# Altium schematic symbol library AltuimSTM32_ExamplePCB_2.SCHLIB: 23 symbols
Pins are listed as number, name and electrical type; pins without a type are passive.

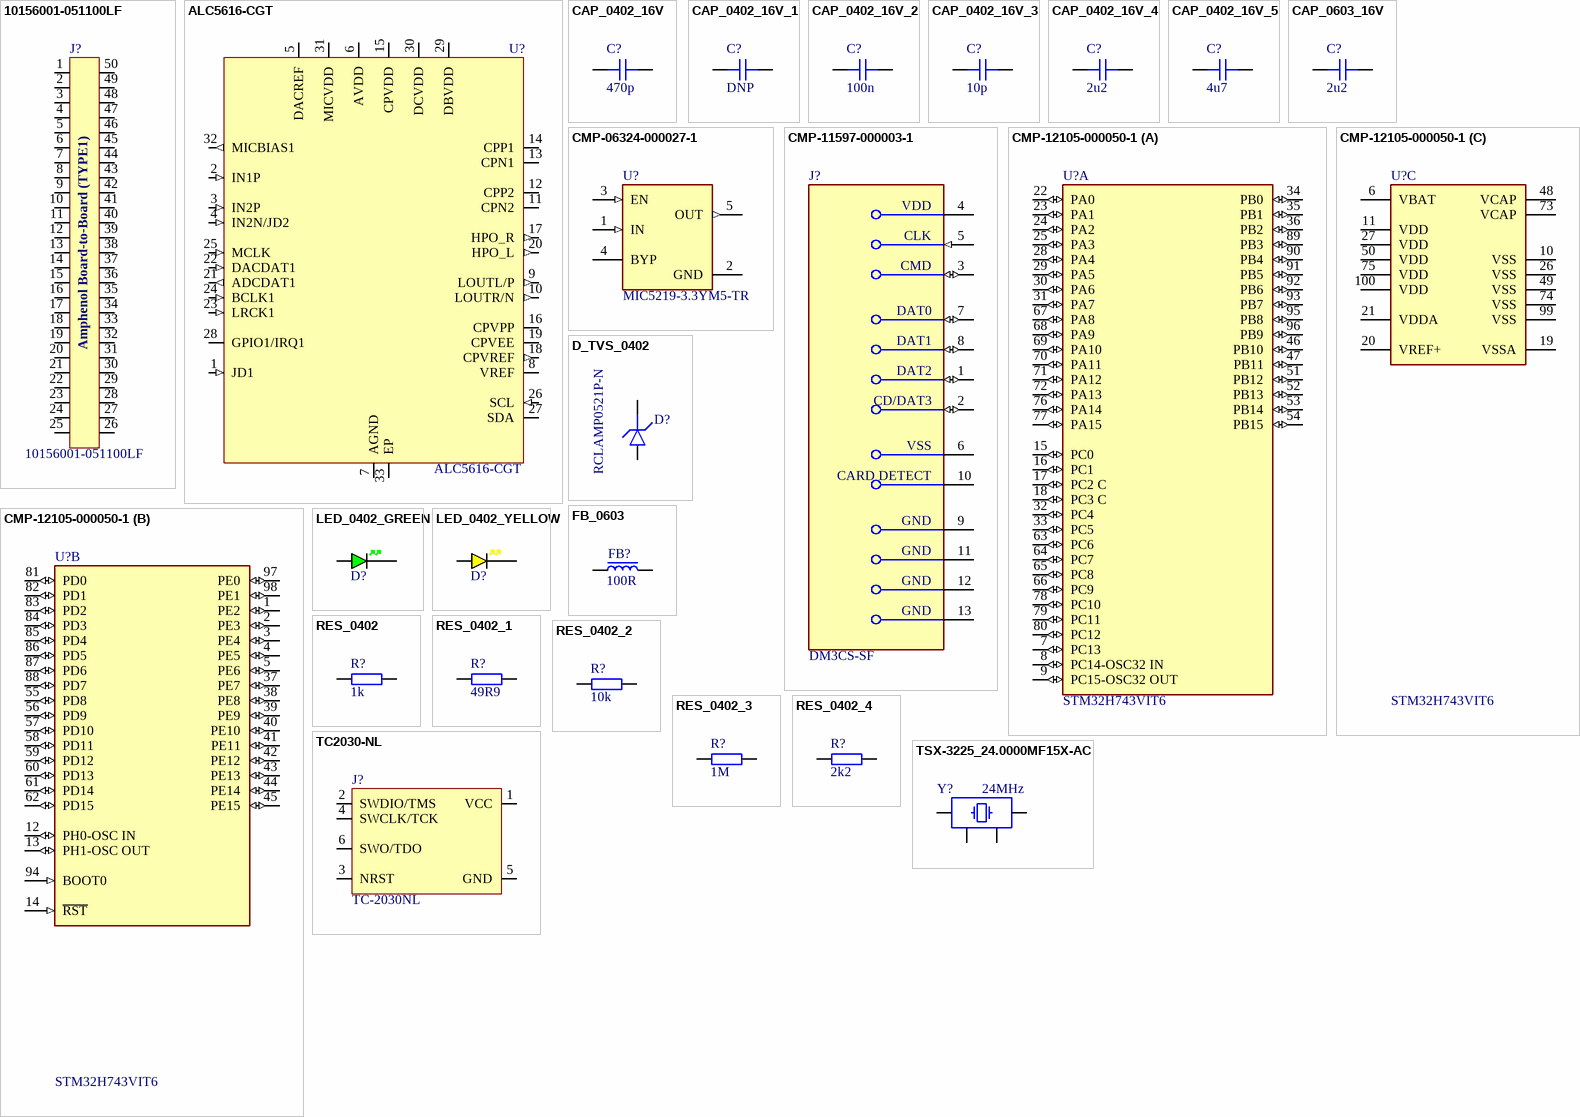
[diagram p0: symbols 10156001-051100LF to TSX-3225_24.0000MF15X-AC]

## 10156001-051100LF
designator J?
Board-to-Board Connector 0.5mm Pitch 50 Position 2 Row; Manufacturer: Amphenol FCI; Manufacturer Part Number: 10156001-051100LF
footprint 10156001-051100LF
pins: 1, 2, 3, 4, 5, 6, 7, 8, 9, 10, 11, 12, 13, 14, 15, 16, 17, 18, 19, 20, 21, 22, 23, 24, 25, 26, 27, 28, 29, 30, 31, 32, 33, 34, 35, 36, 37, 38, 39, 40, 41, 42, 43, 44, 45, 46, 47, 48, 49, 50
text: Amphenol Board-to-Board (TYPE1)

## ALC5616-CGT
designator U?
Ultra-Low Power Audio CODEC; Manufacturer: Realtek; Manufacturer Part Number: ALC5616-CGT
footprint QFN-32-4x4 (QFN, 32-Leads, Body 4.00x4.00mm, Pitch 0.40mm, Thermal Pad 2.70x2.70mm, IPC Medium Density)
pins: 1 JD1 (in), 2 IN1P (in), 3 IN2P (in), 4 IN2N/JD2 (in), 5 DACREF (power), 6 AVDD (power), 7 AGND (power), 8 VREF (power), 9 LOUTL/P (out), 10 LOUTR/N (out), 11 CPN2 (power), 12 CPP2 (power), 13 CPN1 (power), 14 CPP1 (power), 15 CPVDD (power), 16 CPVPP, 17 HPO_R (out), 18 CPVREF (out), 19 CPVEE, 20 HPO_L (out), 21 ADCDAT1 (out), 22 DACDAT1 (in), 23 LRCK1 (in), 24 BCLK1 (in), 25 MCLK (in), 26 SCL (in), 27 SDA (io), 28 GPIO1/IRQ1 (io), 29 DBVDD (power), 30 DCVDD (power), 31 MICVDD (power), 32 MICBIAS1 (out), 33 EP (power)

## CAP_0402_16V
designator C?, comment 470p
Capacitor SMD 0402 16V
footprint CAP_0402
pins: 1, 2

## CAP_0402_16V_1
designator C?, comment DNP
Capacitor SMD 0402 16V
footprint CAP_0402
pins: 1, 2

## CAP_0402_16V_2
designator C?, comment 100n
Capacitor SMD 0402 16V
footprint CAP_0402
pins: 1, 2

## CAP_0402_16V_3
designator C?, comment 10p
Capacitor SMD 0402 16V
footprint CAP_0402
pins: 1, 2

## CAP_0402_16V_4
designator C?, comment 2u2
Capacitor SMD 0402 16V
footprint CAP_0402
pins: 1, 2

## CAP_0402_16V_5
designator C?, comment 4u7
Capacitor SMD 0402 16V
footprint CAP_0402
pins: 1, 2

## CAP_0603_16V
designator C?, comment 2u2
Capacitor SMD 0603 16V
footprint CAP_0603
pins: 1, 2

## CMP-06324-000027-1
designator U?, comment MIC5219-3.3YM5-TR
IC REG LINEAR 3.3V 500MA SOT23-5; Dropout Voltage: 350mV; Output Type: Fixed; Number of Regulators: 1; Max Input Voltage: 12V; Min Input Voltage: 2.5V; Min Operating Temperature: -40°C; Nominal Output Voltage: 3.3V; Output Voltage: 3.3V; Packaging: Cut Tape; Mount: Surface Mount; Number of Pins: 5; Case/Package: SOT-23-5; Lead Free: Lead Free; Max Operating Temperature: 125°C; REACH SVHC: No SVHC; Output Current: 500mA
footprint FP-SOT23-5LD-PL-1-IPC_C
footprint FP-SOT23-5LD-PL-1-IPC_B
footprint FP-SOT23-5LD-PL-1-IPC_A
footprint FP-SOT23-5LD-PL-1-MFG
pins: 1 IN (in), 2 GND (power), 3 EN (in), 4 BYP, 5 OUT (out)

## CMP-11597-000003-1
designator J?, comment DM3CS-SF
CONN MICRO SD CARD HINGED TYPE; Pitch: 1.1mm; Connector Type: Connector; Current Rating: 500mA; Voltage Rating (AC): 125V; Gender: Female; Insulation Resistance: 1GR; Number of Positions: 8; Contact Resistance: 100mR; Packaging: Tape and Reel; Flammability Rating: UL94 V-0; Lead Free: Lead Free; Min Operating Temperature: -25°C; Orientation: Right Angle; Width: 13.8mm; Number of Rows: 1; Housing Material: Polymer; Package Quantity: 1; Mount: Surface Mount; Max Current Rating: 500mA; Radiation Hardening: No; Max Operating Temperature: 85°C; Contact Plating: Gold; Depth: 1.83mm; Contact Material: Gold; Length: 14.1mm; Number of Contacts: 8; Termination: Solder
footprint FP-DM3CS-SF-MFG
pins: 1 DAT2 (io), 2 CD/DAT3 (io), 3 CMD (io), 4 VDD (power), 5 CLK (in), 6 VSS (power), 7 DAT0 (io), 8 DAT1 (io), 9 GND (power), 10 CARD DETECT, 11 GND (power), 12 GND (power), 13 GND (power)

## CMP-12105-000050-1
designator U?, comment STM32H743VIT6
IC MCU 32BIT 2MB FLASH 100LQFP; Manufacturer: STMicroelectronics; Number Of Ethernet Channels: 1; Number Of Usb Channels: 2; Number Of A/D Converters: 3; Min Supply Voltage: 1.71V; Ram Size: 1060KBytes; Number Of I2C Channels: 4; Frequency: 480MHz; Number Of Adc Channels: 36; Number Of I/Os: 82; Max Supply Voltage: 3.6V; Number Of Spi Channels: 6; Memory Size: 2MBytes; Max Junction Temp: +125°C; Core Architecture: Arm Cortex-M7; Interface: I2C,SPI,UART,USART,USB,LIN,IrDA,Ethernet,I2S,Other; Number Of Timers/Counters: 20; Data Bus Width: 32bits; Number Of Pwm Channels: 42; Number Of Uart Channels: 9; Standoff Height: 0.05mm; Device Class L1: Integrated Circuits (ICs); ComponentLink2URL: https://www.st.com/resource/en/datasheet/stm32h743vi.pdf; Automotive: No; Memory Type: FLASH; Number Of Cores: 1; Temperature Range Low: -40°C; RoHS: TRUE; Ambient Temperature Range Low: -40°C; ComponentLink2Description: Datasheet; Device Class L2: Embedded Processors and Controllers; Device Class L3: Microcontrollers; Digikey Description: IC MCU 32BIT 2MB FLASH 100LQFP; Temperature Range High: +125°C; Ambient Temperature Range High: +85°C; Package: LQFP100-1L; Temperature: -40°C to +125°C; Category: IC; Ipc Land Pattern Name: QFP50P1600X1600X160-100; Height: 1.6mm; Manufacturer Part Number: STM32H743VIT6; Octopart: https://octopart.com/stm32h743vit6-stmicroelectronics-76372527; Lead Free: Yes
footprint FP-LQFP100-1L-MFG
footprint FP-LQFP100-1L-IPC_C
footprint FP-LQFP100-1L-IPC_B
footprint FP-LQFP100-1L-IPC_A
part A pins: 7 PC13 (io), 8 PC14-OSC32 IN (io), 9 PC15-OSC32 OUT (io), 15 PC0 (io), 16 PC1 (io), 17 PC2 C (io), 18 PC3 C (io), 22 PA0 (io), 23 PA1 (io), 24 PA2 (io), 25 PA3 (io), 28 PA4 (io), 29 PA5 (io), 30 PA6 (io), 31 PA7 (io), 32 PC4 (io), 33 PC5 (io), 34 PB0 (io), 35 PB1 (io), 36 PB2 (io), 46 PB10 (io), 47 PB11 (io), 51 PB12 (io), 52 PB13 (io), 53 PB14 (io), 54 PB15 (io), 63 PC6 (io), 64 PC7 (io), 65 PC8 (io), 66 PC9 (io), 67 PA8 (io), 68 PA9 (io), 69 PA10 (io), 70 PA11 (io), 71 PA12 (io), 72 PA13 (io), 76 PA14 (io), 77 PA15 (io), 78 PC10 (io), 79 PC11 (io), 80 PC12 (io), 89 PB3 (io), 90 PB4 (io), 91 PB5 (io), 92 PB6 (io), 93 PB7 (io), 95 PB8 (io), 96 PB9 (io)
part B pins: 1 PE2 (io), 2 PE3 (io), 3 PE4 (io), 4 PE5 (io), 5 PE6 (io), 12 PH0-OSC IN (io), 13 PH1-OSC OUT (io), 14 ~{RST} (in), 37 PE7 (io), 38 PE8 (io), 39 PE9 (io), 40 PE10 (io), 41 PE11 (io), 42 PE12 (io), 43 PE13 (io), 44 PE14 (io), 45 PE15 (io), 55 PD8 (io), 56 PD9 (io), 57 PD10 (io), 58 PD11 (io), 59 PD12 (io), 60 PD13 (io), 61 PD14 (io), 62 PD15 (io), 81 PD0 (io), 82 PD1 (io), 83 PD2 (io), 84 PD3 (io), 85 PD4 (io), 86 PD5 (io), 87 PD6 (io), 88 PD7 (io), 94 BOOT0 (in), 97 PE0 (io), 98 PE1 (io)
part C pins: 6 VBAT (power), 10 VSS (power), 11 VDD (power), 19 VSSA (power), 20 VREF+ (power), 21 VDDA (power), 26 VSS (power), 27 VDD (power), 48 VCAP, 49 VSS (power), 50 VDD (power), 73 VCAP, 74 VSS (power), 75 VDD (power), 99 VSS (power), 100 VDD (power)

## D_TVS_0402
designator D?, comment RCLAMP0521P-N
Diode TVS / ESD 0402
footprint D_0402
pins: A, K

## FB_0603
designator FB?, comment 100R
Ferrite Bead SMD 0603
footprint FB_0603 (Ferrite Bead 0603)
pins: 1, 2

## LED_0402_GREEN
designator D?, comment GREEN  (value not drawn)
LED 0402 GREEN SMD
footprint LED_0402_GREEN
pins: A, K

## LED_0402_YELLOW
designator D?, comment YELLOW  (value not drawn)
LED 0402 YELLOW SMD
footprint LED_0402_YELLOW
pins: A, K

## RES_0402
designator R?, comment 1k
Resistor SMD 0402
footprint RES_0402
pins: 1, 2

## RES_0402_1
designator R?, comment 49R9
Resistor SMD 0402
footprint RES_0402
pins: 1, 2

## RES_0402_2
designator R?, comment 10k
Resistor SMD 0402
footprint RES_0402
pins: 1, 2

## RES_0402_3
designator R?, comment 1M
Resistor SMD 0402
footprint RES_0402
pins: 1, 2

## RES_0402_4
designator R?, comment 2k2
Resistor SMD 0402
footprint RES_0402
pins: 1, 2

## TC2030-NL
designator J?, comment TC-2030NL
Tag-Connect No-Solder SWD Debug Connector (No Legs) DO NOT PLACE; Manfucaturer Number: TC2030-NL-FP; Manufacturer: Tag-Connect
footprint TC2030-NL-FP
pins: 1 VCC, 2 SWDIO/TMS, 3 NRST, 4 SWCLK/TCK, 5 GND, 6 SWO/TDO

## TSX-3225_24.0000MF15X-AC
designator Y?, comment 24MHz
Crystal SMD 24MHz 10PPM 7pF 3225; Manufacturer: Epson; Manufacturer Number: TSX-3225 24.0000MF15X-AC; ESR: 40R; Value: 24MHz; Type: XTAL; Load Capacitance: 7pF
footprint XTAL_3225
pins: 1, 2, 3, 4